# Altium footprint library Radial-SMD-8x10mm.PcbLib: 1 footprints
Each footprint in its own frame and in the unit in brackets; x right, y up, seen from the top. Pads: shape width x height; smd on the part's side, far side on the other; paste and mask are expansions set on the pad; w line width, h text height; cw(c..) or ccw(c..) is an arc to the next point about the centre after c.
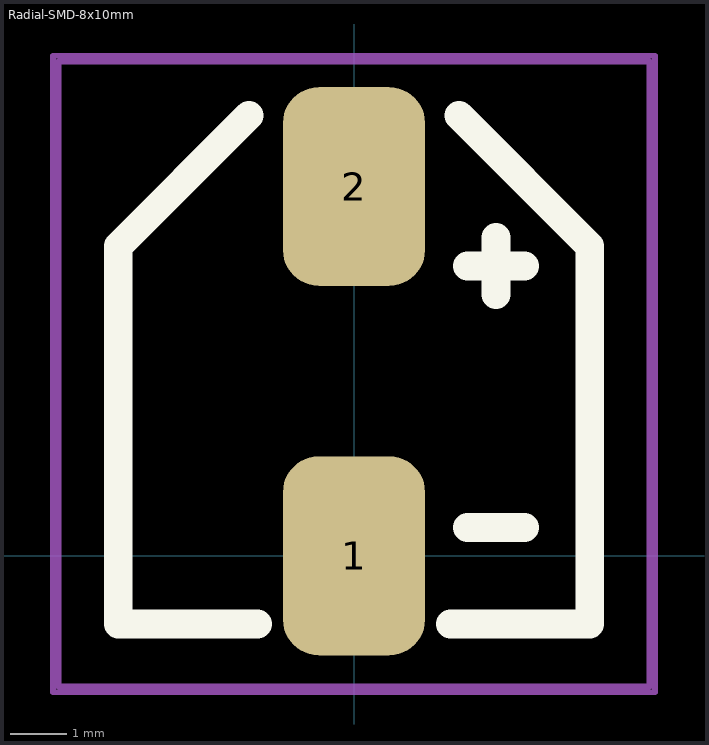
[diagram p0: the footprint, top view; thin cyan lines are the x and y axes]

## Radial-SMD-8x10mm [mm]
pads (2):
  rrect50% 2.5x3.5 smd: 1(0,0) 2(0,6.5)
Top Overlay:
  lines w0.508: -1.85,7.75 -4.15,5.45 -4.15,-1.2 -1.7,-1.2 ; 1.7,-1.2 4.15,-1.2 4.15,5.45 1.85,7.75 ; 2,0.5 3,0.5 ; 2,5.1 3,5.1 ; 2.5,4.6 2.5,5.6
Mechanical 1:
  text ".Designator" at -2.2,3 h1
Mechanical 13:
  lines w0.102: -5.2,-2.3 5.2,-2.3 5.2,8.7 -5.2,8.7 -5.2,-2.3
Mechanical 15:
  lines w0.102: -5.3,-2.4 5.3,-2.4 5.3,8.8 -5.3,8.8 -5.3,-2.4
3D body: height 11.1, standoff -0.05, extent -5.15,-2.3 5.15,8.7